# Altium footprint library GM805 PCB封装库.PcbLib: 4 footprints
Each footprint in its own frame and in the unit in brackets; x right, y up, seen from the top. Pads: shape width x height; smd on the part's side, far side on the other; paste and mask are expansions set on the pad; w line width, h text height; cw(c..) or ccw(c..) is an arc to the next point about the centre after c.
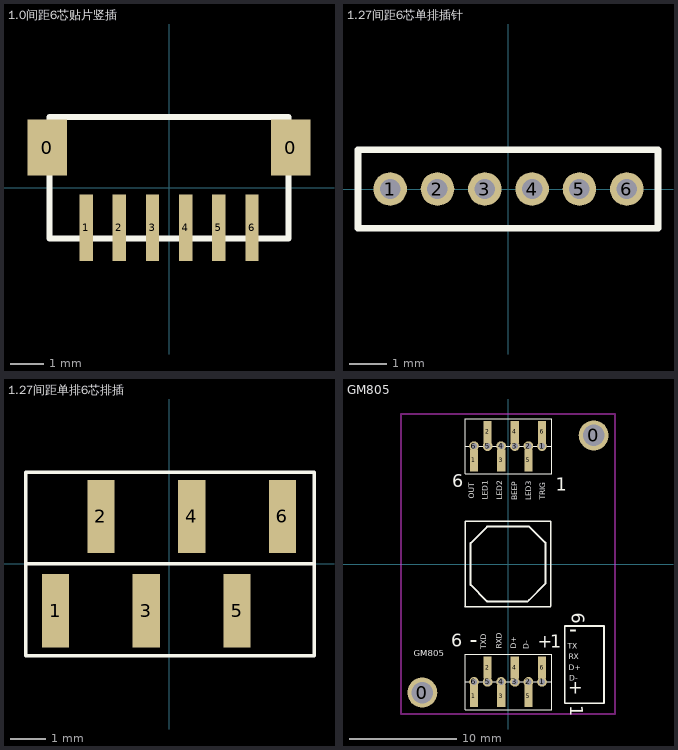
[diagram p0: the footprints below, top view; thin cyan lines are the x and y axes]

## 1.0间距6芯贴片竖插 [mm]
pads (8):
  rect 1.2x1.7 smd: 0(-3.67,1.207) 0(3.67,1.207)
  rect 0.4x2 smd: 1(-2.497,-1.206) 2(-1.497,-1.207) 3(-0.497,-1.207) 4(0.503,-1.207) 5(1.503,-1.207) 6(2.503,-1.207)
Top Overlay:
  lines w0.178: -3.597,2.121 -3.597,-1.537 3.603,-1.537 3.603,2.121 ; -3.594,2.121 3.578,2.121

## 1.27间距6芯单排插针 [mm]
height 0.7
pads (6):
  round 0.9 hole 0.55: 1(-3.175,0) 2(-1.905,0) 3(-0.635,0) 4(0.635,0) 5(1.905,0) 6(3.175,0)
Top Overlay:
  lines w0.178: -4.039,-1.05 4.013,-1.05 4.013,1.05 -4.039,1.05 -4.039,-1.05

## 1.27间距单排6芯排插 [mm]
pads (6):
  rect 0.76x2.05 smd: 1(-3.175,-1.321) 2(-1.905,1.321) 3(-0.635,-1.321) 4(0.635,1.321) 5(1.905,-1.321) 6(3.175,1.321)
Top Overlay:
  lines w0.1: -4.013,0 4.064,0 ; -4.013,-2.587 -4.013,2.561 4.064,2.561 4.064,-2.587 -4.013,-2.587

## GM805 [mm]
height 0.7
pads (26):
  round 2.8 hole 2: 0(-8,-12) 0(8,12)
  rect 0.76x2.05 smd: 1(-3.175,-12.321) 1(-3.175,9.679) 2(-1.905,-9.679) 2(-1.905,12.321) 3(-0.635,-12.321) 3(-0.635,9.679) 4(0.635,-9.679) 4(0.635,12.321) 5(1.905,-12.321) 5(1.905,9.679) 6(3.175,-9.679) 6(3.175,12.321)
  round 0.9 hole 0.55: 1(3.175,-11) 1(3.175,11) 2(1.905,-11) 2(1.905,11) 3(0.635,-11) 3(0.635,11) 4(-0.635,-11) 4(-0.635,11) 5(-1.905,-11) 5(-1.905,11) 6(-3.175,-11) 6(-3.175,11)
Top Overlay:
  lines w0.1: -4.013,-11 4.064,-11 ; -4.013,11 4.064,11 ; -4.013,-13.587 4.064,-13.587 4.064,-8.439 -4.013,-8.439 -4.013,-13.587 ; -4.013,8.413 4.064,8.413 4.064,13.561 -4.013,13.561 -4.013,8.413
  lines w0.127: -4.013,4.013 -4.013,-3.987 3.987,-3.987 ; -3.975,4.013 3.987,4.013 3.987,-3.95
  lines w0.178: -4.013,-3.987 -3.987,-3.987 ; -3.513,-1.943 -3.513,1.943 ; -3.492,-1.943 -1.974,-3.462 ; -3.467,1.943 -1.948,3.462 ; -1.974,-3.487 1.841,-3.487 1.968,-3.36 3.487,-1.841 3.487,1.994 ; -1.948,3.513 1.948,3.513 3.467,1.994 ; 8.954,-12.995 5.296,-12.995 5.296,-5.795 8.954,-5.795 ; 8.954,-12.992 8.954,-5.82
  text "6" at -5.182,6.756 h2.03
  text "1" at 4.445,6.426 h2.03
  text "6" at -5.309,-8.153 h2.03
  text "1" at 3.962,-8.23 h2.03
  text "6" at 5.512,-4.572 h2.03
  text "1" at 5.385,-13.183 h2.03
  text "-" at -3.556,-8.28 h2.54
  text "TXD" at -1.829,-7.95 h0.89
  text "RXD" at -0.381,-7.899 h0.89
  text "D+" at 0.94,-7.925 h0.89
  text "D-" at 2.108,-7.95 h0.89
  text "+" at 2.794,-8.255 h2.03
  text "TRIG" at 3.658,5.994 h0.89
  text "LED3" at 2.337,5.969 h0.89
  text "LED2" at -0.356,5.994 h0.89
  text "BEEP" at 1.067,5.944 h0.89
  text "LED1" at -1.702,5.994 h0.89
  text "D+" at 5.69,-10.084 h0.89
  text "D-" at 5.715,-11.074 h0.89
  text "TX" at 5.563,-8.103 h0.89
  text "RX" at 5.69,-9.093 h0.89
  text "-" at 5.715,-7.315 h2.54
  text "+" at 5.613,-12.548 h2.03
  text "OUT" at -2.972,6.096 h0.89
  text "." at 2.959,8.644 h1
  text "GM805" at -8.814,-8.839 h1.02
Keep-Out Layer:
  lines w0.178: -10,-14 10,-14 10,14 -10,14 -10,-14